# Altium schematic symbol library 4-644456-9.SchLib: 1 symbol
Pins are listed as number, name and electrical type; pins without a type are passive.

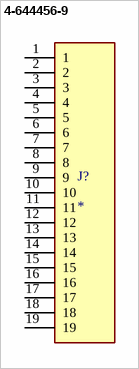
[diagram p0: symbol 4-644456-9]

## 4-644456-9
designator J?
MP: 4-644456-9; Package: None; Price: None; Value: *; Availability: Unavailable
footprint TE_4-644456-9
footprint TE_4-644456-9
pins: 1, 2, 3, 4, 5, 6, 7, 8, 9, 10, 11, 12, 13, 14, 15, 16, 17, 18, 19